# Altium schematic symbol library 6473418-1.SchLib: 1 symbol
Pins are listed as number, name and electrical type; pins without a type are passive.

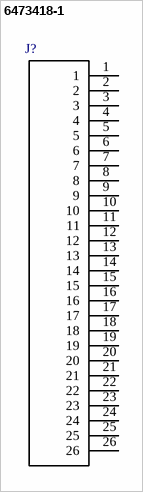
[diagram p0: symbol 6473418-1]

## 6473418-1
designator J?  (value not drawn)
/ Conn Shrouded Header PIN 26 POS 1.5mm Solder ST Thru-Hole Automotive Tube /; MF: TE Connectivity; MP: 6473418-1; Digi-Key_Part_Number: A121634-ND; EU_RoHS_Compliance: Compliant; Package: None; Digi-Key_Purchase_URL: https://www.digikey.com/product-detail/en/te-connectivity-amp-connectors/6473418-1/A121634-ND/2329277?utm_source=snapeda&utm_medium=aggregator&utm_campaign=symbol; SnapEDA_Link: https://www.snapeda.com/parts/6473418-1/TE%20Connectivity%20AMP%20Connectors/view-part/885463/?ref=snap; TE_purchase_URL: https://www.te.com/usa-en/product-6473418-1.html?te_bu=Cor&te_type=disp&te_campaign=seda_glo_cor-seda-global-disp-prtnr-fy19-seda-model-bom-cta_sma-317_1&elqCampaignId=32493; Value: *
footprint *TE_6473418-1
pins: 1, 2, 3, 4, 5, 6, 7, 8, 9, 10, 11, 12, 13, 14, 15, 16, 17, 18, 19, 20, 21, 22, 23, 24, 25, 26